# Altium schematic symbol library PMW3389_SCHlib.SchLib: 4 symbols
Pins are listed as number, name and electrical type; pins without a type are passive.

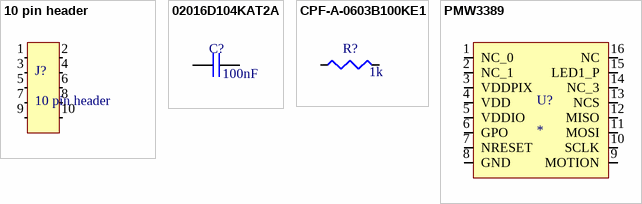
[diagram p0: symbols 10 pin header to PMW3389]

## 10 pin header
designator J?
footprint 10 pin header
pins: 1, 2, 3, 4, 5, 6, 7, 8, 9, 10

## 02016D104KAT2A
designator C?  value 100nF
C0603
footprint C0603
pins: 1, 2

## CPF-A-0603B100KE1
designator R?  value 1k
R0603
footprint R0603
pins: 1, 2

## PMW3389
designator U?
footprint PMW3389
pins: 1 NC_0, 2 NC_1, 3 VDDPIX, 4 VDD, 5 VDDIO, 6 GPO, 7 NRESET, 8 GND, 9 MOTION, 10 SCLK, 11 MOSI, 12 MISO, 13 NCS, 14 NC_3, 15 LED1_P, 16 NC